# Altium footprint library 564КP1.PcbLib: 1 footprints
Each footprint in its own frame and in the unit in brackets; x right, y up, seen from the top. Pads: shape width x height; smd on the part's side, far side on the other; paste and mask are expansions set on the pad; w line width, h text height; cw(c..) or ccw(c..) is an arc to the next point about the centre after c.
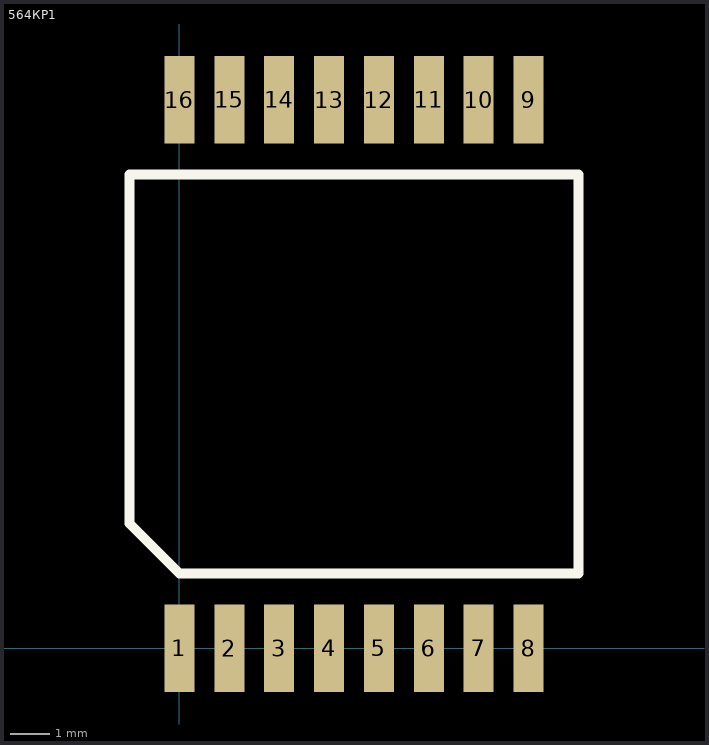
[diagram p0: the footprint, top view; thin cyan lines are the x and y axes]

## 564КP1 [mil]
pads (16):
  rect 30x88 smd: 1(0,0) 2(50,0) 3(100,0) 4(150,0) 5(200,0) 6(250,0) 7(300,0) 8(350,0) 9(350,550) 10(300,550) 11(250,550) 12(200,550) 13(150,550) 14(100,550) 15(50,550) 16(0,550)
Top Overlay:
  lines w10: -50,125 0,75 400,75 400,475 -50,475 -50,125